# EAGLE library part NUCLEO-F446RE (library Self-made parts)
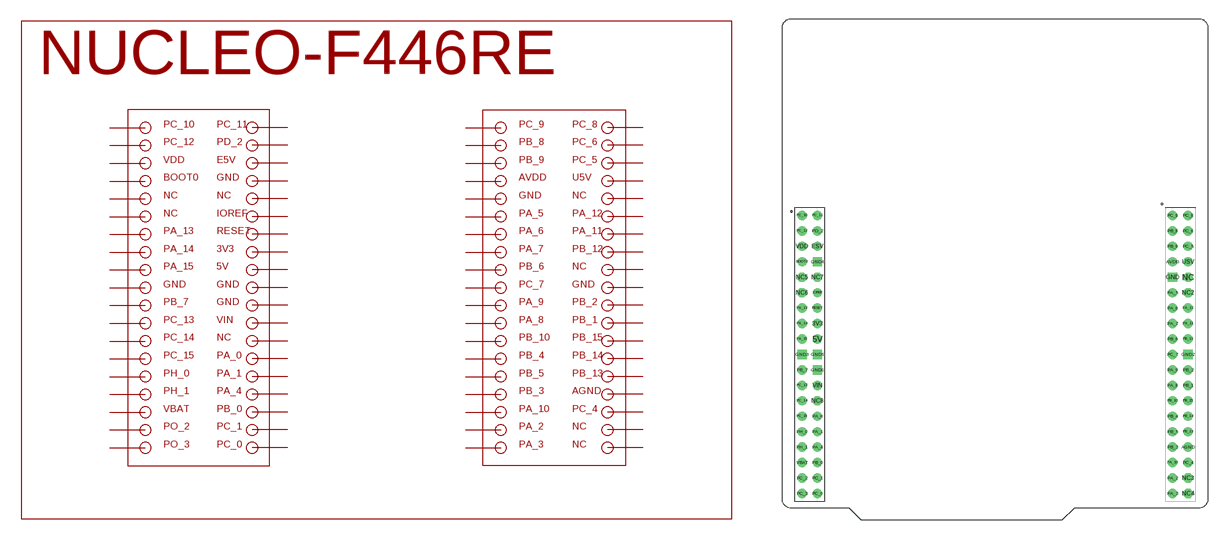
[diagram p0: symbol with the pads of NUCLEO-F446RE; footprint NUCLEO-F446RE]

Designator prefix -

## NUCLEO-F446RE  [NUCLEO-F446RE]
3V3  3V3
5V  5V
AGND  AGND
AVDD  AVDD
BOOT0  BOOT0
ESV  ESV
GND  GND
GND2  GND2
GND3  GND3
GND4  GND4
GND5  GND5
GND6  GND6
IOREF  IOREF
NC  NC  nc
NC2  NC2  nc
NC3  NC3  nc
NC4  NC4  nc
NC5  NC5  nc
NC6  NC6  nc
NC7  NC7  nc
NC8  NC8  nc
PA_0  PA_0
PA_1  PA_1
PA_2  PA_2
PA_3  PA_3
PA_4  PA_4
PA_5  PA_5
PA_6  PA_6
PA_7  PA_7
PA_8  PA_8
PA_9  PA_9
PA_10  PA_10
PA_11  PA_11
PA_12  PA_12
PA_13  PA_13
PA_14  PA_14
PA_15  PA_15
PB_0  PB_0
PB_1  PB_1
PB_2  PB_2
PB_3  PB_3
PB_4  PB_4
PB_5  PB_5
PB_6  PB_6
PB_7  PB_7
PB_8  PB_8
PB_9  PB_9
PB_10  PB_10
PB_12  PB_12
PB_13  PB_13
PB_14  PB_14
PB_15  PB_15
PC_0  PC_0
PC_1  PC_1
PC_2  PC_2
PC_3  PC_3
PC_4  PC_4
PC_5  PC_5
PC_6  PC_6
PC_7  PC_7
PC_8  PC_8
PC_9  PC_9
PC_10  PC_10
PC_11  PC_11
PC_12  PC_12
PC_13  PC_13
PC_14  PC_14
PC_15  PC_15
PD_2  PD_2
PH_0  PH_0
PH_1  PH_1
RESET  RESET
USV  USV
VBAT  VBAT
VDD  VDD
VIN  VIN

## Footprint NUCLEO-F446RE (pad centres in mm)
drill 1.02: 3V3 6.35,30.48; 5V 6.35,27.94; AGND 67.31,10.16; AVDD 64.77,40.64; BOOT0 3.81,40.64; ESV 6.35,43.18; IOREF 6.35,35.56; PA_0 6.35,15.24; PA_1 6.35,12.7; PA_2 64.77,5.08; PA_3 64.77,2.54; PA_4 6.35,10.16; PA_5 64.77,35.56; PA_6 64.77,33.02; PA_7 64.77,30.48; PA_8 64.77,20.32; PA_9 64.77,22.86; PA_10 64.77,7.62; PA_11 67.31,30.48; PA_12 67.31,33.02; PA_13 3.81,33.02; PA_14 3.81,30.48; PA_15 3.81,27.94; PB_0 6.35,7.62; PB_1 67.31,20.32; PB_2 67.31,22.86; PB_3 64.77,10.16; PB_4 64.77,15.24; PB_5 64.77,12.7; PB_6 64.77,27.94; PB_7 3.81,22.86; PB_8 64.77,45.72; PB_9 64.77,43.18; PB_10 64.77,17.78; PB_12 67.31,27.94; PB_13 67.31,12.7; PB_14 67.31,15.24; PB_15 67.31,17.78; PC_0 6.35,2.54; PC_1 6.35,5.08; PC_2 3.81,5.08; PC_3 3.81,2.54; PC_4 67.31,7.62; PC_5 67.31,43.18; PC_6 67.31,45.72; PC_7 64.77,25.4; PC_8 67.31,48.26; PC_9 64.77,48.26; PC_10 3.81,48.26; PC_11 6.35,48.26; PC_12 3.81,45.72; PC_13 3.81,20.32; PC_14 3.81,17.78; PC_15 3.81,15.24; PD_2 6.35,45.72; PH_0 3.81,12.7; PH_1 3.81,10.16; RESET 6.35,33.02; USV 67.31,40.64; VBAT 3.81,7.62; VDD 3.81,43.18; VIN 6.35,20.32
drill 1.02 square: GND 64.77,38.1; GND2 67.31,25.4; GND3 3.81,25.4; GND4 6.35,40.64; GND5 6.35,25.4; GND6 6.35,22.86
drill 1.02 octagon: NC 67.31,38.1; NC2 67.31,35.56; NC3 67.31,5.08; NC4 67.31,2.54; NC5 3.81,38.1; NC6 3.81,35.56; NC7 6.35,38.1; NC8 6.35,17.78